# EAGLE library part 3320 (library Labops_Lib_AH)
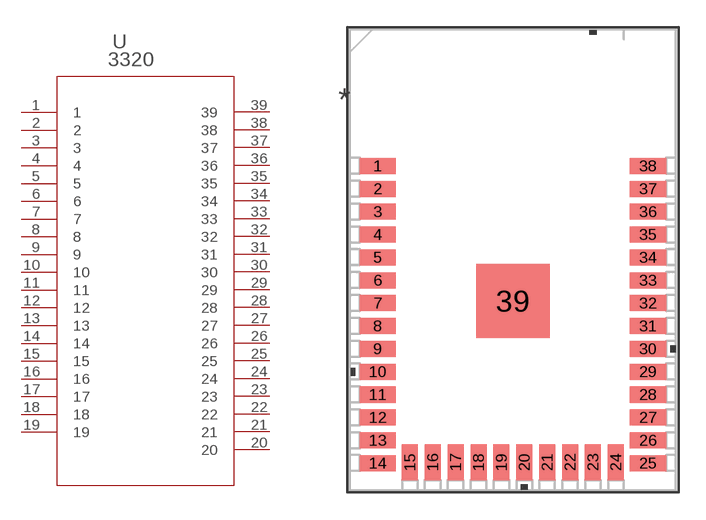
[diagram p45: symbol with the pads of IC_3320_ADA; footprint IC_3320_ADA]

Designator prefix U

## 3320 (BUILT_BY: EMA_Colton; COPYRIGHT: Copyright (C) 2018 Accelerated Designs. All rights reserved; MANUFACTURER_PART_NUMBER: 3320; SOURCELIBRARY: Adafruit_2019-12-18; VENDOR: Adafruit Industries)  [IC_3320_ADA]
1  1  pas
2  2  pas
3  3  pas
4  4  pas
5  5  pas
6  6  pas
7  7  pas
8  8  pas
9  9  pas
10  10  pas
11  11  pas
12  12  pas
13  13  pas
14  14  pas
15  15  pas
16  16  pas
17  17  pas
18  18  pas
19  19  pas
20  20  pas
21  21  pas
22  22  pas
23  23  pas
24  24  pas
25  25  pas
26  26  pas
27  27  pas
28  28  pas
29  29  pas
30  30  pas
31  31  pas
32  32  pas
33  33  pas
34  34  pas
35  35  pas
36  36  pas
37  37  pas
38  38  pas
39  39  pas

## Footprint IC_3320_ADA (pad centres in mm)
smd 2.007 x 0.889: 1 -7.497,5.208; 2 -7.497,3.938; 3 -7.497,2.668; 4 -7.497,1.398; 5 -7.497,0.128; 6 -7.497,-1.142; 7 -7.497,-2.412; 8 -7.497,-3.682; 9 -7.497,-4.952; 10 -7.497,-6.222; 11 -7.497,-7.492; 12 -7.497,-8.762; 13 -7.497,-10.032; 14 -7.497,-11.302; 25 7.497,-11.302; 26 7.497,-10.032; 27 7.497,-8.762; 28 7.497,-7.492; 29 7.497,-6.222; 30 7.497,-4.952; 31 7.497,-3.682; 32 7.497,-2.412; 33 7.497,-1.142; 34 7.497,0.128; 35 7.497,1.398; 36 7.497,2.668; 37 7.497,3.938; 38 7.497,5.208
smd 0.889 x 2.007: 15 -5.715,-11.247; 16 -4.445,-11.247; 17 -3.175,-11.247; 18 -1.905,-11.247; 19 -0.635,-11.247; 20 0.635,-11.247; 21 1.905,-11.247; 22 3.175,-11.247; 23 4.445,-11.247; 24 5.715,-11.247
smd 4.089 x 4.089: 39 0,-2.292